# Altium footprint library P5.PcbLib: 18 footprints (part 1 of 2)
Each footprint in its own frame and in the unit in brackets; x right, y up, seen from the top. Pads: shape width x height; smd on the part's side, far side on the other; paste and mask are expansions set on the pad; w line width, h text height; cw(c..) or ccw(c..) is an arc to the next point about the centre after c.
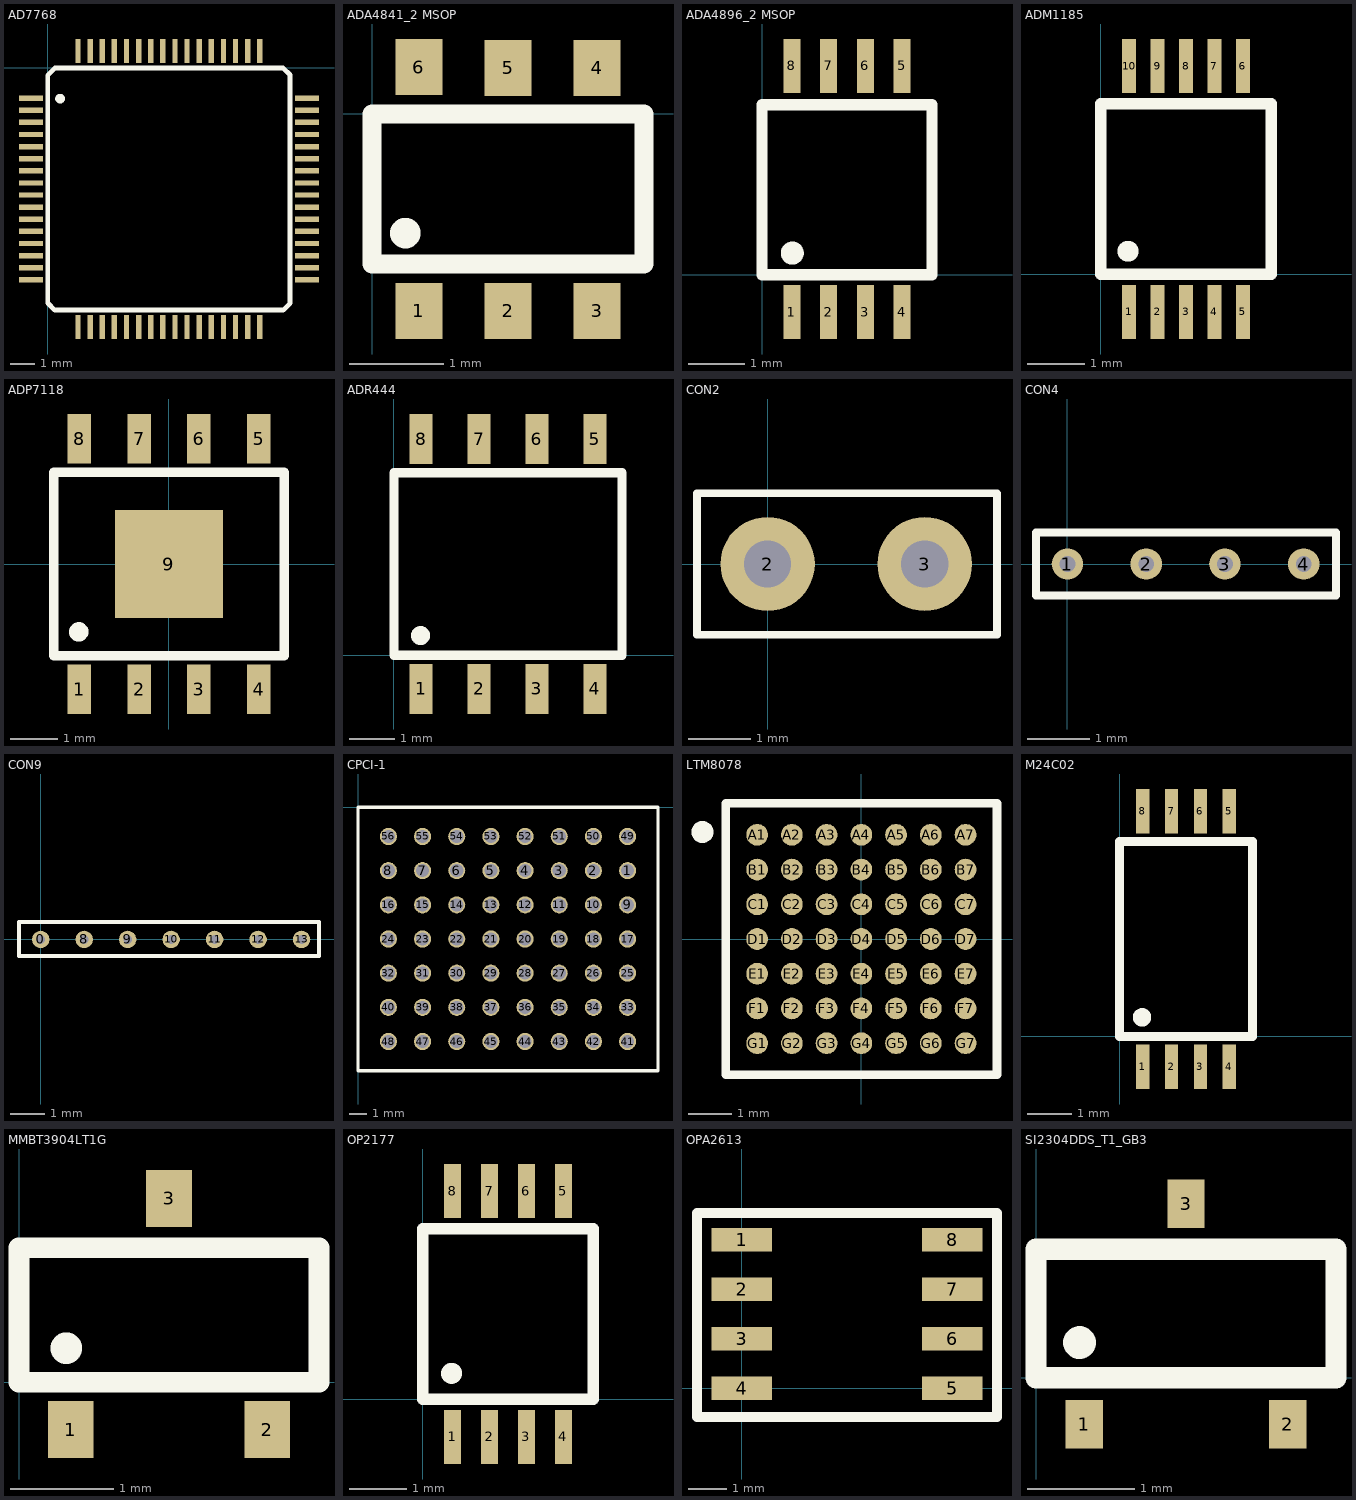
[diagram p0: the footprints below, top view; thin cyan lines are the x and y axes]

## AD7768 [mm]
pads (64):
  rect 1x0.22 smd: 1(-0.686,-1.25) 2(-0.686,-1.75) 3(-0.686,-2.25) 4(-0.686,-2.75) 5(-0.686,-3.25) 6(-0.686,-3.75) 7(-0.686,-4.25) 8(-0.686,-4.75) 9(-0.686,-5.25) 10(-0.686,-5.75) 11(-0.686,-6.25) 12(-0.686,-6.75) 13(-0.686,-7.25) 14(-0.686,-7.75) 15(-0.686,-8.25) 16(-0.686,-8.75) 33(10.693,-8.75) 34(10.693,-8.25) 35(10.693,-7.75) 36(10.693,-7.25) 37(10.693,-6.75) 38(10.693,-6.25) 39(10.693,-5.75) 40(10.693,-5.25) 41(10.693,-4.75) 42(10.693,-4.25) 43(10.693,-3.75) 44(10.693,-3.25) 45(10.693,-2.75) 46(10.693,-2.25) 47(10.693,-1.75) 48(10.693,-1.25)
  rect 0.22x1 smd: 17(1.25,-10.69) 18(1.75,-10.69) 19(2.25,-10.69) 20(2.75,-10.69) 21(3.25,-10.69) 22(3.75,-10.69) 23(4.25,-10.69) 24(4.75,-10.69) 25(5.25,-10.69) 26(5.75,-10.69) 27(6.25,-10.69) 28(6.75,-10.69) 29(7.25,-10.69) 30(7.75,-10.69) 31(8.25,-10.69) 32(8.75,-10.69) 49(8.75,0.69) 50(8.25,0.69) 51(7.75,0.69) 52(7.25,0.69) 53(6.75,0.69) 54(6.25,0.69) 55(5.75,0.69) 56(5.25,0.69) 57(4.75,0.69) 58(4.25,0.69) 59(3.75,0.69) 60(3.25,0.69) 61(2.75,0.69) 62(2.25,0.69) 63(1.75,0.69) 64(1.25,0.69)
Top Overlay:
  circle w0.254: c0.508,-1.27 r0.072
  lines w0.2: 0,-9.703 0,-0.305 0.305,0 9.703,0 10,-0.297 10,-9.71 9.71,-10 0.297,-10 0,-9.703

## ADA4841_2 MSOP [mm]
pads (6):
  rect 0.5x0.6 smd: 1(0.5,-2.1) 2(1.45,-2.1) 3(2.4,-2.1) 4(2.4,0.491) 5(1.45,0.491) 6(0.5,0.5)
Top Overlay:
  circle w0.254: c0.356,-1.27 r0.036
  lines w0.2: 0,-1.6 0,0 2.9,0 2.9,-1.6 0,-1.6

## ADA4896_2 MSOP [mm]
pads (8):
  rect 0.3x0.95 smd: 1(0.525,-0.66) 2(1.175,-0.66) 3(1.825,-0.66) 4(2.475,-0.66) 5(2.475,3.686) 6(1.825,3.686) 7(1.175,3.686) 8(0.525,3.686)
Top Overlay:
  circle w0.254: c0.533,0.381 r0.076
  lines w0.2: 0,0 3,0 3,3 0,3 0,0

## ADM1185 [mm]
pads (10):
  rect 0.25x0.95 smd: 1(0.5,-0.66) 2(1,-0.66) 3(1.5,-0.66) 4(2,-0.66) 5(2.5,-0.66) 6(2.5,3.66) 7(2,3.66) 8(1.5,3.66) 9(1,3.66) 10(0.5,3.66)
Top Overlay:
  circle w0.254: c0.483,0.406 r0.057
  lines w0.2: 0,0 0,3 3,3 3,0 0,0

## ADP7118 [mm]
pads (9):
  rect 0.5x1.05 smd: 1(-1.905,-2.661) 2(-0.635,-2.661) 3(0.635,-2.661) 4(1.905,-2.661) 5(1.905,2.661) 6(0.635,2.661) 7(-0.635,2.661) 8(-1.905,2.661)
  rect 2.29x2.29 smd: 9(0,0)
Top Overlay:
  circle w0.254: c-1.917,-1.442 r0.08
  lines w0.2: -2.45,-1.95 -2.45,1.95 2.45,1.95 2.45,-1.95 -2.45,-1.95

## ADR444 [mm]
pads (8):
  rect 0.5x1.1 smd: 1(0.595,-0.737) 2(1.865,-0.737) 3(3.135,-0.737) 4(4.405,-0.737) 5(4.405,4.737) 6(3.135,4.737) 7(1.865,4.737) 8(0.595,4.737)
Top Overlay:
  circle w0.254: c0.584,0.432 r0.08
  lines w0.2: 0,0 5,0 5,4 0,4 0,0

## CON2 [mil]
pads (2):
  round 60 hole 30: 2(0,0) 3(100,0)
Top Overlay:
  lines w5: 145.71,45 -45,45 -45,-45 146,-45 146,44.88

## CON4 [mil]
pads (4):
  round 20 hole 10: 1(0,0) 2(50,0) 3(100,0) 4(150,0)
Top Overlay:
  lines w5: -20,-20 170.5,-20 170.5,20 -20,20 -20,-20

## CON9 [mil]
pads (7):
  round 20 hole 10: 0(0,0) 8(50,0) 9(100,0) 10(150,0) 11(200,0) 12(250,0) 13(300,0)
Top Overlay:
  lines w5: -25,-19 -25,20 320,20 320,-19 -25,-19

## CPCI-1 [mm]
pads (56):
  round 1 hole 0.762: 1(15.78,-3.7) 2(13.78,-3.7) 3(11.78,-3.7) 4(9.78,-3.7) 5(7.78,-3.7) 6(5.78,-3.7) 7(3.78,-3.7) 8(1.78,-3.7) 9(15.78,-5.7) 10(13.78,-5.7) 11(11.78,-5.7) 12(9.78,-5.7) 13(7.78,-5.7) 14(5.78,-5.7) 15(3.78,-5.7) 16(1.78,-5.7) 17(15.78,-7.7) 18(13.78,-7.7) 19(11.78,-7.7) 20(9.78,-7.7) 21(7.78,-7.7) 22(5.78,-7.7) 23(3.78,-7.7) 24(1.78,-7.7) 25(15.78,-9.7) 26(13.78,-9.7) 27(11.78,-9.7) 28(9.78,-9.7) 29(7.78,-9.7) 30(5.78,-9.7) 31(3.78,-9.7) 32(1.78,-9.7) 33(15.78,-11.7) 34(13.78,-11.7) 35(11.78,-11.7) 36(9.78,-11.7) 37(7.78,-11.7) 38(5.78,-11.7) 39(3.78,-11.7) 40(1.78,-11.7) 41(15.78,-13.7) 42(13.78,-13.7) 43(11.78,-13.7) 44(9.78,-13.7) 45(7.78,-13.7) 46(5.78,-13.7) 47(3.78,-13.7) 48(1.78,-13.7) 49(15.78,-1.7) 50(13.78,-1.7) 51(11.78,-1.7) 52(9.78,-1.7) 53(7.78,-1.7) 54(5.78,-1.7) 55(3.78,-1.7) 56(1.78,-1.7)
Top Overlay:
  lines w0.2: 0,-15.4 0,0 17.56,0 17.56,-15.4 0,-15.4

## LTM8078 [mm]
pads (49):
  round 0.5 smd: A1(-2.4,2.4) A2(-1.6,2.4) A3(-0.8,2.4) A4(0,2.4) A5(0.8,2.4) A6(1.6,2.4) A7(2.4,2.4) B1(-2.4,1.6) B2(-1.6,1.6) B3(-0.8,1.6) B4(0,1.6) B5(0.8,1.6) B6(1.6,1.6) B7(2.4,1.6) C1(-2.4,0.8) C2(-1.6,0.8) C3(-0.8,0.8) C4(0,0.8) C5(0.8,0.8) C6(1.6,0.8) C7(2.4,0.8) D1(-2.4,0) D2(-1.6,0) D3(-0.8,0) D4(0,0) D5(0.8,0) D6(1.6,0) D7(2.4,0) E1(-2.4,-0.8) E2(-1.6,-0.8) E3(-0.8,-0.8) E4(0,-0.8) E5(0.8,-0.8) E6(1.6,-0.8) E7(2.4,-0.8) F1(-2.4,-1.6) F2(-1.6,-1.6) F3(-0.8,-1.6) F4(0,-1.6) F5(0.8,-1.6) F6(1.6,-1.6) F7(2.4,-1.6) G1(-2.4,-2.4) G2(-1.6,-2.4) G3(-0.8,-2.4) G4(0,-2.4) G5(0.8,-2.4) G6(1.6,-2.4) G7(2.4,-2.4)
Top Overlay:
  circle w0.254: c-3.658,2.464 r0.127
  lines w0.2: -3.125,-3.125 3.125,-3.125 3.125,3.125 -3.125,3.125 -3.125,-3.125

## M24C02 [mm]
pads (8):
  rect 0.3x1 smd: 1(0.525,-0.686) 2(1.175,-0.686) 3(1.825,-0.686) 4(2.475,-0.686) 5(2.475,5.086) 6(1.825,5.086) 7(1.175,5.086) 8(0.525,5.086)
Top Overlay:
  circle w0.254: c0.508,0.432 r0.08
  lines w0.2: 0,0 0,4.4 3,4.4 3,0 0,0

## MMBT3904LT1G [mm]
pads (3):
  rect 0.44x0.55 smd: 1(0.5,-0.457) 2(2.4,-0.457) 3(1.45,1.778)
Top Overlay:
  circle w0.254: c0.457,0.33 r0.025
  lines w0.2: 0,0 2.9,0 2.9,1.3 0,1.3 0,0

## OP2177 [mm]
pads (8):
  rect 0.3x0.95 smd: 1(0.525,-0.66) 2(1.175,-0.66) 3(1.825,-0.66) 4(2.475,-0.66) 5(2.475,3.66) 6(1.825,3.66) 7(1.175,3.66) 8(0.525,3.66)
Top Overlay:
  circle w0.254: c0.508,0.457 r0.057
  lines w0.2: 0,0 3,0 3,3 0,3 0,0

## OPA2613 [mm]
pads (8):
  rect 1.55x0.6 smd: 1(0,3.81) 2(0,2.54) 3(0,1.27) 4(0,0) 5(5.4,0) 6(5.4,1.27) 7(5.4,2.54) 8(5.4,3.81)
Top Overlay:
  lines w0.254: -1.143,-0.737 -1.143,-0.508 -1.143,4.496 6.553,4.496 6.553,-0.737 -1.143,-0.737

## SI2304DDS_T1_GB3 [mm]
pads (3):
  rect 0.35x0.45 smd: 1(0.45,-0.432) 2(2.35,-0.432) 3(1.4,1.626)
Top Overlay:
  circle w0.254: c0.406,0.33 r0.025
  lines w0.2: 0,0 0,1.2 2.8,1.2 2.8,0 0,0